# Altium schematic symbol library WindesheimLibrary.SchLib: 12 symbols
Pins are listed as number, name and electrical type; pins without a type are passive.

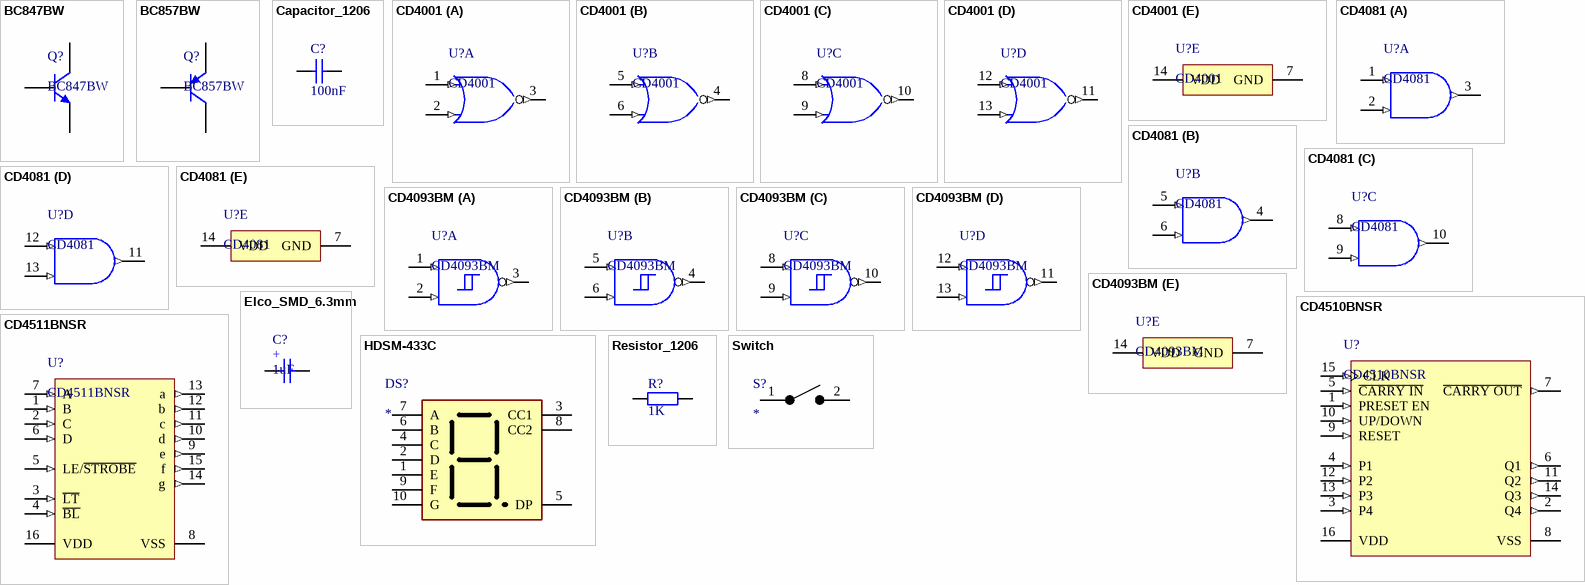
[diagram p0: symbols BC847BW to Switch]

## BC847BW
designator Q?
footprint SOT23 (SOT23, 3-Leads, Body 2.92x1.3mm, Pitch 0.95mm)
signal-integrity model BC847BW (Model Description)
pins: 1 B, 2 E, 3 C

## BC857BW
designator Q?
footprint SOT23 (SOT23, 3-Leads, Body 2.92x1.3mm, Pitch 0.95mm)
signal-integrity model BC857BW (Model Description)
pins: 1 B, 2 E, 3 C

## Capacitor_1206
designator C?, comment 100nF
SMD Capacitor 1206; Published: 03-11-2016; LatestRevisionDate: 03-11-2016; LatestRevisionNote: Creation; PackageReference: C1206; Publisher: Windesheim; PackageDescription: Chip Capacitor, Body 3.2x1.6mm, Height 1.7mm, IPC Medium Density; Value: 100nF
simulation model CAP (Capacitor)
signal-integrity model Cap
footprint C1206 (Chip Capacitor, Body 3.2x1.6mm, Height 1.7mm, IPC Medium Density)
pins: 1, 2

## CD4001
designator U?
CMOS Quad 2-Input NOR Schmitt Triggers, D0014A, TUBE; Generic Part Number: CD4093B; Manufacturer: Texas Instruments; Output Drive (IOL/IOH)(Max)(mA): 1.5/-1.5; VCC(Min)(V): 3; Rating: Catalog; Schmitt Trigger: Yes; Voltage(Nom)(V): 10; F @ Nom Voltage(Max)(Mhz): 8; ICC @ Nom Voltage(Max)(mA): 0.06; Bits(#): 4; VCC(Max)(V): 18; Technology Family: CD4000; DatasheetVersion: SCHS115D; Code_JEDEC: MS-012; Operating Temperature Range(C): -55 to 125; Output Type: CMOS; PackageReference: D0014A; Input Type: CMOS
footprint D0014A_N (SOIC, 14-Leads, Body 8.75x4mm, Pitch 1.27mm, IPC Medium Density)
part A pins: 1 A (in), 2 B (in), 3 J (out)
part B pins: 4 K (out), 5 C (in), 6 D (in)
part C pins: 8 E (in), 9 F (in), 10 L (out)
part D pins: 11 M (out), 12 G (in), 13 H (in)
part E pins: 7 GND (power), 14 VDD (power)

## CD4081
designator U?
CMOS Quad 2-Input AND, D0014A, TUBE; Generic Part Number: CD4093B; Manufacturer: Texas Instruments; Output Drive (IOL/IOH)(Max)(mA): 1.5/-1.5; VCC(Min)(V): 3; Rating: Catalog; Schmitt Trigger: Yes; Voltage(Nom)(V): 10; F @ Nom Voltage(Max)(Mhz): 8; ICC @ Nom Voltage(Max)(mA): 0.06; Bits(#): 4; VCC(Max)(V): 18; Technology Family: CD4000; DatasheetVersion: SCHS115D; Code_JEDEC: MS-012; Operating Temperature Range(C): -55 to 125; Output Type: CMOS; PackageReference: D0014A; Input Type: CMOS
footprint D0014A_N (SOIC, 14-Leads, Body 8.75x4mm, Pitch 1.27mm, IPC Medium Density)
part A pins: 1 A (in), 2 B (in), 3 J (out)
part B pins: 4 K (out), 5 C (in), 6 D (in)
part C pins: 8 E (in), 9 F (in), 10 L (out)
part D pins: 11 M (out), 12 G (in), 13 H (in)
part E pins: 7 GND (power), 14 VDD (power)

## CD4093BM
designator U?
CMOS Quad 2-Input NAND Schmitt Triggers, D0014A, TUBE; Manufacturer: Texas Instruments; Output Drive (IOL/IOH)(Max)(mA): 1.5/-1.5; VCC(Min)(V): 3; Rating: Catalog; Schmitt Trigger: Yes; Voltage(Nom)(V): 10; F @ Nom Voltage(Max)(Mhz): 8; ICC @ Nom Voltage(Max)(mA): 0.06; Bits(#): 4; VCC(Max)(V): 18; Technology Family: CD4000; Generic Part Number: CD4093B; DatasheetVersion: SCHS115D; Code_JEDEC: MS-012; Operating Temperature Range(C): -55 to 125; Output Type: CMOS; PackageReference: D0014A; Input Type: CMOS
footprint D0014A_N (SOIC, 14-Leads, Body 8.75x4mm, Pitch 1.27mm, IPC Medium Density)
part A pins: 1 A (in), 2 B (in), 3 J (out)
part B pins: 4 K (out), 5 C (in), 6 D (in)
part C pins: 8 E (in), 9 F (in), 10 L (out)
part D pins: 11 M (out), 12 G (in), 13 H (in)
part E pins: 7 GND (power), 14 VDD (power)

## CD4510BNSR
designator U?
CMOS Presettable BCD Up/Down Counter, NS0016A, LARGE T&R; Manufacturer: Texas Instruments; Bits(#): 4; VCC(Min)(V): 3; Voltage(Nom)(V): 5,10,15; Schmitt Trigger: No; Output Drive (IOL/IOH)(Max)(mA): 1.5/-1.5; Rating: Catalog; Inputs: 1; VCC(Max)(V): 18; Technology Family: CD4000; F @ Nom Voltage(Max)(Mhz): 8; ICC @ Nom Voltage(Max)(mA): 0.03; tpd @ Nom Voltage(Max)(ns): 200; PackageReference: NS0016A; DatasheetVersion: SCHS071B; Generic Part Number: CD4510B; Operating Temperature Range(C): -55 to 125; Output Type: CMOS; Input Type: CMOS; Type: Other; Function: Counter
footprint NS0016A_N (SOIC,16-Leads,Body 10.5x5.6mm,Pitch 1.27mm,IPC Medium Density)
pins: 1 PRESET EN (in), 2 Q4 (out), 3 P4 (in), 4 P1 (in), 5 ~{CARRY IN} (in), 6 Q1 (out), 7 ~{CARRY OUT} (out), 8 VSS (power), 9 RESET (in), 10 UP/DOWN (in), 11 Q2 (out), 12 P2 (in), 13 P3 (in), 14 Q3 (out), 15 CLK (in), 16 VDD (power)

## CD4511BNSR
designator U?
CMOS BCD-to-7-Segment LED Latch / Decoder / Driver, 3 to 18 V, -55 to 125 degC, 16-pin SOP (NS16), Green (RoHS & no Sb/Br); Manufacturer: Texas Instruments; Vin(Max)(V): 18; Rating: Military; Vin(Min)(V): 3; SubFamily: Discrete Segment LED Driver; ComponentLink3URL: http://www.ti.com/litv/pdf/msop002a; ComponentLink1Description: Manufacturer URL; PackageReference: NS16; ComponentLink3Description: Package Specification; ComponentLink1URL: http://www.ti.com/; DatasheetVersion: SCHS072B; Mounting Technology: Surface Mount; PartNumber: CD4511BNSR; ComponentLink2Description: Datasheet; PackageVersion: 4040062/C; ComponentLink2URL: http://www.ti.com/general/docs/lit/getliterature.tsp?genericPartNumber=CD4511B&fileType=pdf; Eco-Plan: Green (RoHS & no Sb/Br); PackageDescription: 16-Pin Plastic Small Outline, Body 10.20 x 5.30 mm, Pitch 1.27 mm
footprint TI-NS16_N (SOP, 16-Leads, Body 10.2x5.3mm, Pitch 1.27mm, IPC Medium Density)
pins: 1 B (in), 2 C (in), 3 ~{LT} (in), 4 ~{BL} (in), 5 LE/~{STROBE} (in), 6 D (in), 7 A (in), 8 VSS (power), 9 e (out), 10 d (out), 11 c (out), 12 b (out), 13 a (out), 14 g (out), 15 f (out), 16 VDD (power)

## Elco_SMD_6.3mm
designator C?, comment 1uF
Elco SMD 6.3mm; Value: 1uF
footprint CAP_ELEC_6.3x4.2 (Capacitor, polarized, aluminum can; 6.3x4.2mm DxH)
simulation model Model Name (Model Description)
pins: 1, 2
text: +

## HDSM-433C
designator DS?
Display; Manufacturer_Name: Avago Technologies; Manufacturer_Part_Number: HDSM-433C; Datasheet Link: https://docs.broadcom.com/docs/AV02-0708EN; Height: 4mm; Mouser Part Number: 630-HDSM-433C; Mouser Price/Stock: https://www.mouser.com/Search/Refine.aspx?Keyword=630-HDSM-433C; RS Part Number: 1783057; RS Price/Stock: http://uk.rs-online.com/web/p/products/1783057
footprint HDSM433C
pins: 1 E, 2 D, 3 CC1, 4 C, 5 DP, 6 B, 7 A, 8 CC2, 9 F, 10 G

## Resistor_1206
designator R?, comment 1K
SMD Resistor 1206; Published: 03-11-2016; LatestRevisionDate: 03-11-2016; LatestRevisionNote: Creation; PackageReference: R1206; Publisher: Windesheim; PackageDescription: Chip Resistor, Body 3.2x1.6mm, IPC Medium Density; Value: 1K
simulation model RESISTOR (Resistor)
signal-integrity model Res
footprint R1206 (Chip Resistor, Body 3.2x1.6mm, IPC Medium Density)
pins: 1, 2

## Switch
designator S?
Switch; Manufacturer_Name: TE Connectivity; Manufacturer_Part_Number: 147873-1; Datasheet Link: https://componentsearchengine.com/Datasheets/1/147873-1.pdf; Height: 5mm; Mouser Part Number: 506-147873-1; Mouser Price/Stock: https://www.mouser.com/Search/Refine.aspx?Keyword=506-147873-1
footprint 1478731
pins: 1, 2